# EAGLE library part TI-INA219 (library FaBo-Sensor)
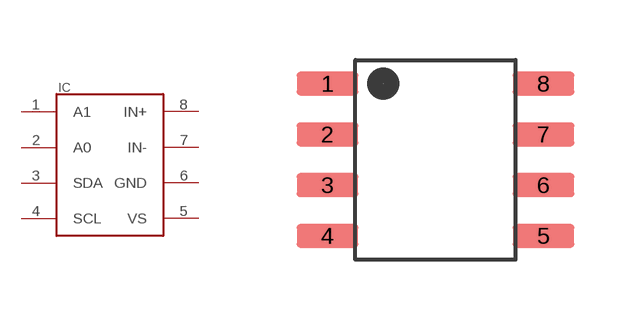
[diagram p18: symbol with the pads of TI-INA219; footprint TI-INA219]

Designator prefix IC

## TI-INA219  [TI-INA219]
1  A1
2  A0
3  SDA
4  SCL
5  VS
6  GND
7  IN-
8  IN+

## Footprint TI-INA219 (pad centres in mm)
smd 1.55 x 0.6: 1 -2.7,1.905; 2 -2.7,0.635; 3 -2.7,-0.635; 4 -2.7,-1.905; 5 2.7,-1.905; 6 2.7,-0.635; 7 2.7,0.635; 8 2.7,1.905